# Altium footprint library AP33771CFBZ-13-FA01.PcbLib: 2 footprints
Each footprint in its own frame and in the unit in brackets; x right, y up, seen from the top. Pads: shape width x height; smd on the part's side, far side on the other; paste and mask are expansions set on the pad; w line width, h text height; cw(c..) or ccw(c..) is an arc to the next point about the centre after c.
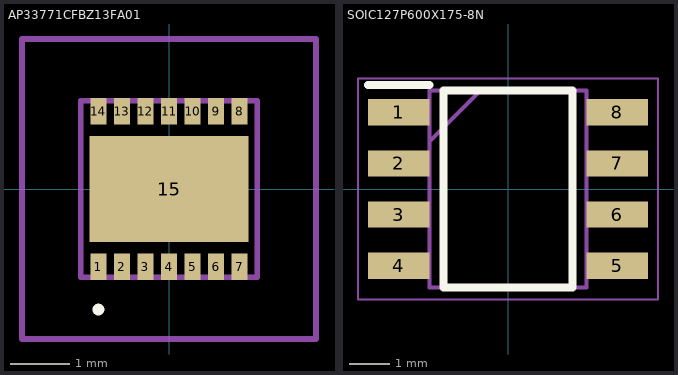
[diagram p0: the footprints below, top view; thin cyan lines are the x and y axes]

## AP33771CFBZ13FA01 [mm]
pads (15):
  rect 0.27x0.45 smd: 1(-1.2,-1.325) 2(-0.8,-1.325) 3(-0.4,-1.325) 4(0,-1.325) 5(0.4,-1.325) 6(0.8,-1.325) 7(1.2,-1.325) 8(1.2,1.325) 9(0.8,1.325) 10(0.4,1.325) 11(0,1.325) 12(-0.4,1.325) 13(-0.8,1.325) 14(-1.2,1.325)
  rect 2.7x1.8 smd: 15(0,0)
Top Overlay:
  lines w0.1: -1.25,-2.05 ccw(c-1.2,-2.05) -1.15,-2.05 ccw(c-1.2,-2.05) -1.25,-2.05
Mechanical 13:
  lines w0.1: -1.5,-1.5 1.5,-1.5 1.5,1.5 -1.5,1.5 -1.5,-1.5
Mechanical 15:
  lines w0.1: -2.5,-2.55 2.5,-2.55 2.5,2.55 -2.5,2.55 -2.5,-2.55
3D body "AP33771CFBZ-13-FA01.stp": height 0.75, standoff 0, extent -1.501,-1.504 1.499,1.496

## SOIC127P600X175-8N [mm]
pads (8):
  rect 1.525x0.65 smd: 1(-2.712,1.905) 2(-2.712,0.635) 3(-2.712,-0.635) 4(-2.712,-1.905) 5(2.712,-1.905) 6(2.712,-0.635) 7(2.712,0.635) 8(2.712,1.905)
Top Overlay:
  lines w0.2: -3.475,2.58 -1.95,2.58 ; -1.6,-2.45 1.6,-2.45 1.6,2.45 -1.6,2.45 -1.6,-2.45
Mechanical 13:
  lines w0.1: -1.95,1.18 -0.68,2.45 ; -1.95,-2.45 1.95,-2.45 1.95,2.45 -1.95,2.45 -1.95,-2.45
Mechanical 15:
  lines w0.05: -3.725,-2.75 3.725,-2.75 3.725,2.75 -3.725,2.75 -3.725,-2.75
3D body "NE555DR.stp": height 1.75, standoff 0, extent -3,-2.45 3,2.45